# Altium schematic symbol library ICs-BatteryStackMonitors.SchLib: 2 symbols
Pins are listed as number, name and electrical type; pins without a type are passive.

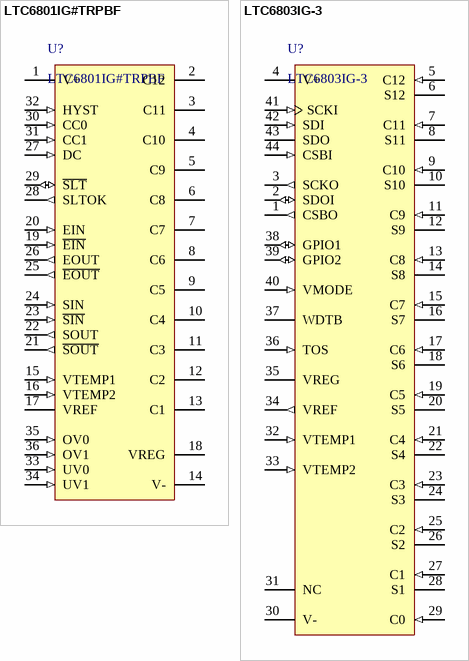
[diagram p0: symbols LTC6801IG#TRPBF to LTC6803IG-3]

## LTC6801IG#TRPBF
designator U?
Manufacturer: Linear Technology; PartNumber: LTC6801IG#TRPBF; Parameter 1: *
footprint TSSOP-36 (SOP, 36-Leads, Body 12.80x5.30mm, Pitch 0.65mm, IPC Medium Density)
pins: 1 V+ (power) "Supply Voltage. Tied to the most positive potential in the battery stack. For example, the same potential as C12 when measuring a stack of 12 cells, or the same potential as C7 when measuring a stack of 7 cells.", 2 C12 (power) "Cell Voltage input. Up to 12 cells can be monitored. The lowest potential is tied to V-. The next lowest potential is tied to C1 and so forth. Due to internal overvoltage protection, each C input must be tied to a potential (See Datasheet)", 3 C11 (power) "Cell Voltage input. Up to 12 cells can be monitored. The lowest potential is tied to V-. The next lowest potential is tied to C1 and so forth. Due to internal overvoltage protection, each C input must be tied to a potential (See Datasheet)", 4 C10 (power) "Cell Voltage input. Up to 12 cells can be monitored. The lowest potential is tied to V-. The next lowest potential is tied to C1 and so forth. Due to internal overvoltage protection, each C input must be tied to a potential (See Datasheet)", 5 C9 (power) "Cell Voltage input. Up to 12 cells can be monitored. The lowest potential is tied to V-. The next lowest potential is tied to C1 and so forth. Due to internal overvoltage protection, each C input must be tied to a potential (See Datasheet)", 6 C8 (power) "Cell Voltage input. Up to 12 cells can be monitored. The lowest potential is tied to V-. The next lowest potential is tied to C1 and so forth. Due to internal overvoltage protection, each C input must be tied to a potential (See Datasheet)", 7 C7 (power) "Cell Voltage input. Up to 12 cells can be monitored. The lowest potential is tied to V-. The next lowest potential is tied to C1 and so forth. Due to internal overvoltage protection, each C input must be tied to a potential (See Datasheet)", 8 C6 (power) "Cell Voltage input. Up to 12 cells can be monitored. The lowest potential is tied to V-. The next lowest potential is tied to C1 and so forth. Due to internal overvoltage protection, each C input must be tied to a potential (See Datasheet)", 9 C5 (power) "Cell Voltage input. Up to 12 cells can be monitored. The lowest potential is tied to V-. The next lowest potential is tied to C1 and so forth. Due to internal overvoltage protection, each C input must be tied to a potential (See Datasheet)", 10 C4 (power) "Cell Voltage input. Up to 12 cells can be monitored. The lowest potential is tied to V-. The next lowest potential is tied to C1 and so forth. Due to internal overvoltage protection, each C input must be tied to a potential (See Datasheet)", 11 C3 (power) "Cell Voltage input. Up to 12 cells can be monitored. The lowest potential is tied to V-. The next lowest potential is tied to C1 and so forth. Due to internal overvoltage protection, each C input must be tied to a potential (See Datasheet)", 12 C2 (power) "Cell Voltage input. Up to 12 cells can be monitored. The lowest potential is tied to V-. The next lowest potential is tied to C1 and so forth. Due to internal overvoltage protection, each C input must be tied to a potential (See Datasheet)", 13 C1 (power) "Cell Voltage input. Up to 12 cells can be monitored. The lowest potential is tied to V-. The next lowest potential is tied to C1 and so forth. Due to internal overvoltage protection, each C input must be tied to a potential (See Datasheet)", 14 V- (power) "Tied to the most negative cell potential (bottom of monitored cell stack).", 15 VTEMP1 (in) "Temperature Sensor input. The ADC will measure the voltages on VTEMP1 and VTEMP2 relative to V-. The ADC measurements are referenced to the VREF pin voltage. Therefore a simple thermistor and resistor combination connected (See Datasheet)", 16 VTEMP2 (in) "Temperature Sensor input. The ADC will measure the voltages on VTEMP1 and VTEMP2 relative to V-. The ADC measurements are referenced to the VREF pin voltage. Therefore a simple thermistor and resistor combination connected (See Datasheet)", 17 VREF (hiz) "Reference Output, Nominally 3.058V. Requires a 1uF bypass capacitor to V-. The VREF pin can drive a 100k resistive load connected to V-. VREF must be buffered with an LT6003 amplifier, or similar device to drive heavier (See Datasheet)", 18 VREG (power) "Regulator Output, Nominally 5V. Requires a 1uF bypass capacitor to V-. The VREG pin is capable of supplying up to 4mA to an external load and is continually enabled.", 19 ~{EIN} (in) "Differential Enable Input. A clock signal greater than 2kHz will enable the LTC6801. For operation with a single-ended enable signal (up to 10kHz), drive EIN and connect a 1nF capacitor from E\I\N\ to V-.", 20 EIN (in) "Differential Enable Input. A clock signal greater than 2kHz will enable the LTC6801. For operation with a single-ended enable signal (up to 10kHz), drive EIN and connect a 1nF capacitor from E\I\N\ to V-.", 21 ~{SOUT} (out) "Differential Status Output. Swings V- to VREG. This output will toggle at the same frequency as EIN/E\I\N\ when a valid signal is detected at SIN/S\I\N\ and the battery stack being monitored is within specified parameters, (See Datasheet)", 22 SOUT (out) "Differential Status Output. Swings V- to VREG. This output will toggle at the same frequency as EIN/E\I\N\ when a valid signal is detected at SIN/S\I\N\ and the battery stack being monitored is within specified parameters, (See Datasheet)", 23 ~{SIN} (in) "Differential status input from the IC above. To indicate that the stack is good, SIN must be the same frequency and phase as EIN. See applications circuits for interfacing SIN to the SOUT above.", 24 SIN (in) "Differential status input from the IC above. To indicate that the stack is good, SIN must be the same frequency and phase as EIN. See applications circuits for interfacing SIN to the SOUT above.", 25 ~{EOUT} (out) "A Buffered Version of EIN/E\I\N\. Swings V- to VREG. Must be capacitively coupled to the EIN/E\I\N\ input of the next higher voltage LTC6801 in a stack, or looped to SIN/S\I\N\ of the same chip (pins 23, 24).", 26 EOUT (out) "A Buffered Version of EIN/E\I\N\. Swings V- to VREG. Must be capacitively coupled to the EIN/E\I\N\ input of the next higher voltage LTC6801 in a stack, or looped to SIN/S\I\N\ of the same chip (pins 23, 24).", 27 DC (in) "Duty Cycle Three-Level Input. This pin may be tied to VREG, VREF or V-. The DC pin selects the duty cycle of the monitoring function and has an internal pullup to VREG. See Table 3.", 28 SLTOK (out) "Self Test Logic Output. SLTOK is held HIGH (VREG voltage) upon reset or successful completion of a self test cycle. A LOW output level (V- voltage) indicates the last self test cycle failed.", 29 ~{SLT} (io) "Self Test Open Collector Input/Output. S\L\T\ initiates a self test cycle when it is pulled low externally. When a high to low transition is detected, the next scheduled measurement cycle will be a self test cycle. S\L\T\ (See Datasheet)", 30 CC0 (in) "Cell Count Three-Level input. These pins may be tied to VREG, VREF or V-. CC1 and CC0 select the number of cells attached to the device and each pin has an internal pull-up to VREG.", 31 CC1 (in) "Cell Count Three-Level input. These pins may be tied to VREG, VREF or V-. CC1 and CC0 select the number of cells attached to the device and each pin has an internal pull-up to VREG.", 32 HYST (in) "Hysteresis Three-Level Input. This pin may be tied to VREG, VREF or V-. HYST selects the amount of hysteresis applied to the undervoltage and overvoltage threshold settings and has an internal pull-down to V-.", 33 UV0 (in) "Undervoltage Three-Level input. These pins may be tied to VREG, VREF or V-. UV1 and UV0 select the undervoltage threshold and each pin has an internal pull-up to VREG.", 34 UV1 (in) "Undervoltage Three-Level input. These pins may be tied to VREG, VREF or V-. UV1 and UV0 select the undervoltage threshold and each pin has an internal pull-up to VREG.", 35 OV0 (in) "Overvoltage Three-Level input. These pins may be tied to VREG, VREF or V-. OV1 and OV0 select the overvoltage threshold and each pin has an internal pull-down to V-.", 36 OV1 (in) "Overvoltage Three-Level input. These pins may be tied to VREG, VREF or V-. OV1 and OV0 select the overvoltage threshold and each pin has an internal pull-down to V-."

## LTC6803IG-3
designator U?
Manufacturer: Linear Technology; PartNumber: LTC6803IG-3#PBF; PackageReference: TSSOP-44; Mounting Technology: Surface Mount; PackageDescription: SOP, 44-Leads, Body 13.1x5.6mm, Pitch 0.5mm
footprint TSSOP-44 (SOP, 44-Leads, Body 13.1x5.6mm, Pitch 0.5mm, IPC High Density)
pins: 1 CSBO (out) "Chip Select Output (Active Low). CSBO is a buffered version of the chip select input, CSBI. CSBO drives the next IC in the daisy chain. See Serial Port in the Applications Information section.", 2 SDOI (io) "Serial Data I/O Pin. SDOI transfers data to and from the next IC in the daisy chain. See Serial Port in the Applications Information section.", 3 SCKO (out) "Serial Clock Output. SCKO is a buffered version of SCKI. SCKO drives the next IC in the daisy chain. See Serial Port in the Applications Information section.", 4 V+ (power) "Positive Power Supply. Pin 4 can be tied to the most positive potential in the battery stack or an isolated power supply. V+ must be greater than the most positive potential in the battery stack under normal operation. With (See Datasheet)", 5 C12 (in) "C1 through C12 are the inputs for monitoring battery cell voltages. The negative terminal of the bottom cell is tied to pin V- for LTC6803-1, pin C0 for LTC6803-3 . The next lowest potential is tied to C1 and so forth. See (See Datasheet)", 6 S12 (hiz) "S1 though S12 pins are used to balance battery cells. If one cell in a series becomes overcharged, an S output can be used to discharge the cell. Each S output has an internal N-channel MOSFET for discharging. See the Block (See Datasheet)", 7 C11 (in) "C1 through C12 are the inputs for monitoring battery cell voltages. The negative terminal of the bottom cell is tied to pin V- for LTC6803-1, pin C0 for LTC6803-3 . The next lowest potential is tied to C1 and so forth. See (See Datasheet)", 8 S11 (hiz) "S1 though S12 pins are used to balance battery cells. If one cell in a series becomes overcharged, an S output can be used to discharge the cell. Each S output has an internal N-channel MOSFET for discharging. See the Block (See Datasheet)", 9 C10 (in) "C1 through C12 are the inputs for monitoring battery cell voltages. The negative terminal of the bottom cell is tied to pin V- for LTC6803-1, pin C0 for LTC6803-3 . The next lowest potential is tied to C1 and so forth. See (See Datasheet)", 10 S10 (hiz) "S1 though S12 pins are used to balance battery cells. If one cell in a series becomes overcharged, an S output can be used to discharge the cell. Each S output has an internal N-channel MOSFET for discharging. See the Block (See Datasheet)", 11 C9 (in) "C1 through C12 are the inputs for monitoring battery cell voltages. The negative terminal of the bottom cell is tied to pin V- for LTC6803-1, pin C0 for LTC6803-3 . The next lowest potential is tied to C1 and so forth. See (See Datasheet)", 12 S9 (hiz) "S1 though S12 pins are used to balance battery cells. If one cell in a series becomes overcharged, an S output can be used to discharge the cell. Each S output has an internal N-channel MOSFET for discharging. See the Block (See Datasheet)", 13 C8 (in) "C1 through C12 are the inputs for monitoring battery cell voltages. The negative terminal of the bottom cell is tied to pin V- for LTC6803-1, pin C0 for LTC6803-3 . The next lowest potential is tied to C1 and so forth. See (See Datasheet)", 14 S8 (hiz) "S1 though S12 pins are used to balance battery cells. If one cell in a series becomes overcharged, an S output can be used to discharge the cell. Each S output has an internal N-channel MOSFET for discharging. See the Block (See Datasheet)", 15 C7 (in) "C1 through C12 are the inputs for monitoring battery cell voltages. The negative terminal of the bottom cell is tied to pin V- for LTC6803-1, pin C0 for LTC6803-3 . The next lowest potential is tied to C1 and so forth. See (See Datasheet)", 16 S7 (hiz) "S1 though S12 pins are used to balance battery cells. If one cell in a series becomes overcharged, an S output can be used to discharge the cell. Each S output has an internal N-channel MOSFET for discharging. See the Block (See Datasheet)", 17 C6 (in) "C1 through C12 are the inputs for monitoring battery cell voltages. The negative terminal of the bottom cell is tied to pin V- for LTC6803-1, pin C0 for LTC6803-3 . The next lowest potential is tied to C1 and so forth. See (See Datasheet)", 18 S6 (hiz) "S1 though S12 pins are used to balance battery cells. If one cell in a series becomes overcharged, an S output can be used to discharge the cell. Each S output has an internal N-channel MOSFET for discharging. See the Block (See Datasheet)", 19 C5 (in) "C1 through C12 are the inputs for monitoring battery cell voltages. The negative terminal of the bottom cell is tied to pin V- for LTC6803-1, pin C0 for LTC6803-3 . The next lowest potential is tied to C1 and so forth. See (See Datasheet)", 20 S5 (hiz) "S1 though S12 pins are used to balance battery cells. If one cell in a series becomes overcharged, an S output can be used to discharge the cell. Each S output has an internal N-channel MOSFET for discharging. See the Block (See Datasheet)", 21 C4 (in) "C1 through C12 are the inputs for monitoring battery cell voltages. The negative terminal of the bottom cell is tied to pin V- for LTC6803-1, pin C0 for LTC6803-3 . The next lowest potential is tied to C1 and so forth. See (See Datasheet)", 22 S4 (hiz) "S1 though S12 pins are used to balance battery cells. If one cell in a series becomes overcharged, an S output can be used to discharge the cell. Each S output has an internal N-channel MOSFET for discharging. See the Block (See Datasheet)", 23 C3 (in) "C1 through C12 are the inputs for monitoring battery cell voltages. The negative terminal of the bottom cell is tied to pin V- for LTC6803-1, pin C0 for LTC6803-3 . The next lowest potential is tied to C1 and so forth. See (See Datasheet)", 24 S3 (hiz) "S1 though S12 pins are used to balance battery cells. If one cell in a series becomes overcharged, an S output can be used to discharge the cell. Each S output has an internal N-channel MOSFET for discharging. See the Block (See Datasheet)", 25 C2 (in) "C1 through C12 are the inputs for monitoring battery cell voltages. The negative terminal of the bottom cell is tied to pin V- for LTC6803-1, pin C0 for LTC6803-3 . The next lowest potential is tied to C1 and so forth. See (See Datasheet)", 26 S2 (hiz) "S1 though S12 pins are used to balance battery cells. If one cell in a series becomes overcharged, an S output can be used to discharge the cell. Each S output has an internal N-channel MOSFET for discharging. See the Block (See Datasheet)", 27 C1 (in) "C1 through C12 are the inputs for monitoring battery cell voltages. The negative terminal of the bottom cell is tied to pin V- for LTC6803-1, pin C0 for LTC6803-3 . The next lowest potential is tied to C1 and so forth. See (See Datasheet)", 28 S1 (hiz) "S1 though S12 pins are used to balance battery cells. If one cell in a series becomes overcharged, an S output can be used to discharge the cell. Each S output has an internal N-channel MOSFET for discharging. See the Block (See Datasheet)", 29 C0 (in) "Negative Terminal of the Bottom Battery Cell. C0 and V- form Kelvin connections to eliminate effect of voltage drop at the V- trace.", 30 V- (power) "Connect V- to the most negative potential in the series of cells.", 31 NC "This pin is not used and is internally connected to V- through 10ohm. It can be left unconnected or connected to V- on the PCB.", 32 VTEMP1 (in) "Temperature Sensor Inputs. The ADC measures the voltage on VTEMPn with respect to V- and stores the result in the TMP registers. The ADC measurements are relative to the VREF pin voltage. Therefore a simple thermistor and (See Datasheet)", 33 VTEMP2 (in) "Temperature Sensor Inputs. The ADC measures the voltage on VTEMPn with respect to V- and stores the result in the TMP registers. The ADC measurements are relative to the VREF pin voltage. Therefore a simple thermistor and (See Datasheet)", 34 VREF (out) "3.065V Voltage Reference Output. This pin should be bypassed with a 1uF capacitor. The VREF pin can drive a 100k resistive load connected to V-. Larger loads should be buffered with an LT6003 op amp, or similar device.", 35 VREG (power) "Linear Voltage Regulator Output. This pin should be bypassed with a 1uF capacitor. The VREG pin is capable of supplying up to 4mA to an external load. The VREG pin does not sink current.", 36 TOS (in) "Top of Stack Input. Tie TOS to VREG when the LTC6803-1 or LTC6803-3 is the top device in a daisy chain. Tie TOS to V- otherwise. When TOS is tied to VREG, the LTC6803-1 or LTC6803-3 ignores the SDOI input and SCKO, CSBO are (See Datasheet)", 37 WDTB (oc) "Watchdog Timer Output (Active Low). If there is no valid command received for 1 to 2.5 seconds, the WDTB output is asserted. The WDTB pin is an open-drain NMOS output. When asserted it pulls the output down to V- and resets (See Datasheet)", 38 GPIO1 (io) "General Purpose Input/Output. By writing a “0” to a GPIO configuration register bit, the open-drain output is activated and the pin is pulled to V-. By writing logic “1” to the configuration register b(See Datasheet)", 39 GPIO2 (io) "General Purpose Input/Output. By writing a “0” to a GPIO configuration register bit, the open-drain output is activated and the pin is pulled to V-. By writing logic “1” to the configuration register b(See Datasheet)", 40 VMODE (in) "Voltage Mode Input. When VMODE is tied to VREG, the SCKI, SDI, SDO and CSBI pins are configured as voltage inputs and outputs. This means these pins accept standard TTL logic levels. Connect VMODE to VREG when the LTC6803-1 (See Datasheet)", 41 SCKI (in) "Serial Clock Input. The SCKI pin interfaces to any logic gate (TTL levels) if VMODE is tied to VREG. SCKI must be driven by the SCKO pin of another LTC6803-1 or LTC6803-3 if VMODE is tied to V-. See Serial Port in the (See Datasheet)", 42 SDI (in) "Serial Data Input. The SDI pin interfaces to any logic gate (TTL levels) if VMODE is tied to VREG. SDI must be driven by the SDOI pin of another LTC6803-1 or LTC6803-3 if VMODE is tied to V-. See Serial Port in the (See Datasheet)", 43 SDO (oc) "Serial Data Output. The SDO pin is an NMOS open-drain output if VMODE is tied to VREG. A pull-up resistor is needed on SDO. SDO is not used if VMODE is tied to V-. See Serial Port in the Applications Information section.", 44 CSBI (in) "Chip Select (Active Low) Input. The CSBI pin interfaces to any logic gate (TTL levels) if VMODE is tied to VREG. CSBI must be driven by the CSBO pin of another LTC6803-1 or LTC6803-3 if VMODE is tied to V-. See Serial Port (See Datasheet)"